# Altium schematic symbol library TomDownesLibray.SchLib: 1 symbol
Pins are listed as number, name and electrical type; pins without a type are passive.

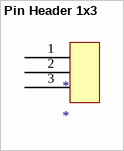
[diagram p0: symbol Pin Header 1x3]

## Pin Header 1x3
designator *
.1" pitch pin header
footprint Pin Header 1x3 (0.1" pin header)
pins: 1, 2, 3